# EAGLE library part CPL-CON-HEADER-0.1IN-4PX2-M (library TinWhiskers)
Connector: Header, 0.1", 4Px2R; Package: Thru-Hole, Vertical; Datasheet:
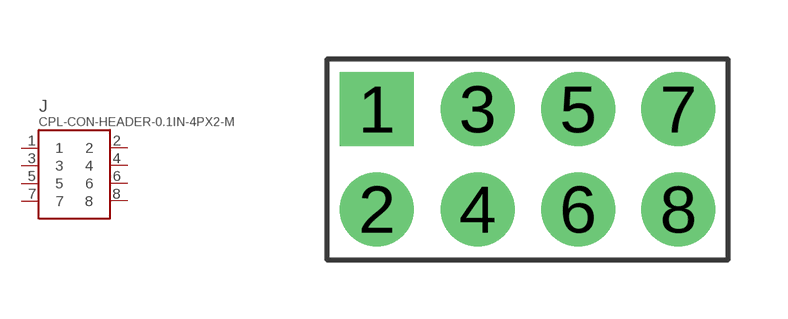
[diagram p42: symbol with the pads of CON-HDR-4PX2-M; footprint CON-HDR-4PX2-M]

Designator prefix J

## CPL-CON-HEADER-0.1IN-4PX2-M  [CON-HDR-4PX2-M]
1  1
2  2
3  3
4  4
5  5
6  6
7  7
8  8

## Footprint CON-HDR-4PX2-M (pad centres in mm)
Header: 0.1" Pitch, 8-Pos (2-row); Package: Thru-Hole, Vertical Datasheet:
drill 1.25 square: 1 -3.81,1.27
drill 1.25: 2 -3.81,-1.27; 3 -1.26,1.27; 4 -1.26,-1.27; 5 1.28,1.27; 6 1.28,-1.27; 7 3.82,1.27; 8 3.82,-1.27